# EAGLE library part TPS62740 (library chips)
360nA Step Down Converter for Low Power Applications
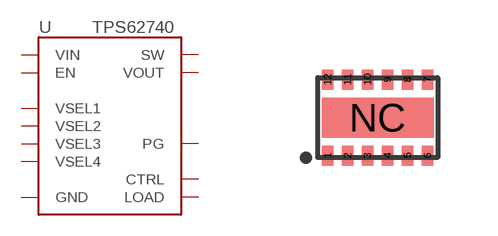
[diagram p13: symbol with the pads of R-PWSON-12; footprint R-PWSON-12]

Designator prefix U

## TPS62740 (DIGIKEY: 296-37134-1-ND; MOUSER: 595-TPS62740DSST; NEWARK: 27X9745)  [R-PWSON-12]
1  VIN
2  SW
3  GND
4  CTRL
5  VOUT
6  LOAD
7  PG
8  VSEL4
9  VSEL3
10  VSEL2
11  VSEL1
12  EN
NC  GND

## Footprint R-PWSON-12 (pad centres in mm)
smd 0.28 x 0.5: 1 -1.25,-0.95; 2 -0.75,-0.95; 3 -0.25,-0.95; 4 0.25,-0.95; 5 0.75,-0.95; 6 1.25,-0.95; 7 1.25,0.95; 8 0.75,0.95; 9 0.25,0.95; 10 -0.25,0.95; 11 -0.75,0.95; 12 -1.25,0.95
smd 2.8 x 1: NC 0,0